# Altium integrated library Electronics_PCB.IntLib: 21 symbols
Pins are listed as number, name and electrical type; pins without a type are passive.

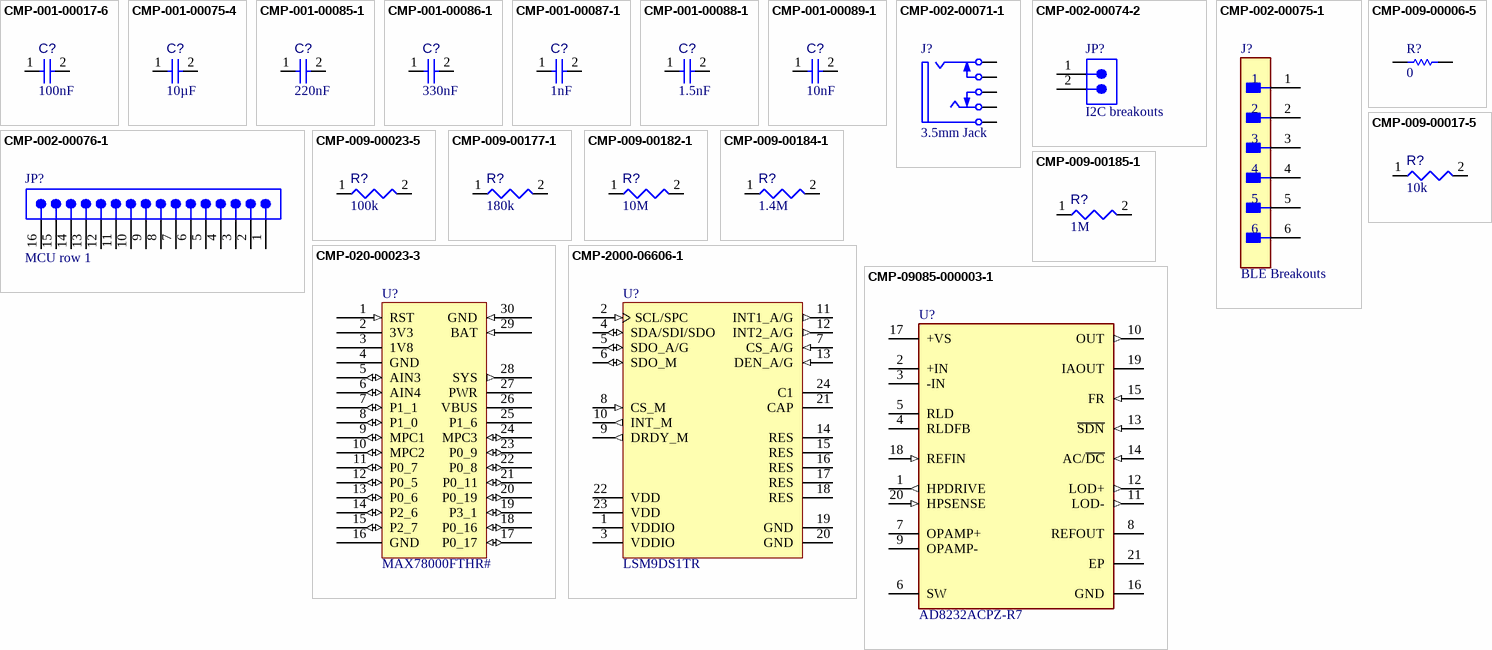
[diagram p0: symbols CMP-001-00017-6 to CMP-09085-000003-1]

## CMP-001-00017-6
designator C?, comment value 100nF  (hidden comment: Capacitor 100 nF +/-10% 50 V 0603)
Chip Capacitor, 100 nF, +/- 10%, 50 V, 0603 (1608 Metric); Manufacturer: Kyocera AVX; Manufacturer Part Number: 06035C104KAT2A; Manufacturer: Yageo; Manufacturer Part Number: CC0603KRX7R9BB104; Manufacturer: Murata; Manufacturer Part Number: GRM188R71H104KA93D; Voltage Rating: 50V; Capacitor Type: Ceramic; Tolerance: 10%; Mounting Technology: SM; Max Operating Temperature: 125°C; RoHS Compliant: True; Pins: 2; Case/Package: 0603; Min Operating Temperature: -55°C; Component Type: Capacitors
footprint CAPC1608X90X40NL10T20 (Chip Capacitor, 2-Leads, Body 1.70x0.90mm, IPC Medium Density)
footprint CAPC1608X90X40LL10T20 (Chip Capacitor, 2-Leads, Body 1.70x0.90mm, IPC High Density)
footprint CAPC1608X90X40ML10T20 (Chip Capacitor, 2-Leads, Body 1.70x0.90mm, IPC Low Density)
pins: 1, 2

## CMP-001-00075-4
designator C?, comment value 10µF  (hidden comment: Capacitor 10µF +/-20% 10V 0603)
Chip Capacitor, 10µF +/-20%, 10V, 0603, Thickness 1 mm; Manufacturer: Yageo; Manufacturer Part Number: CC0603KRX5R6BB106; Manufacturer: TDK; Manufacturer Part Number: C1608X5R1A106K; Manufacturer: Kyocera AVX; Manufacturer Part Number: 0603ZD106KAT2A; Manufacturer: Murata; Manufacturer Part Number: GRM188R61C106KAALD; Manufacturer: Samsung; Manufacturer Part Number: CL10A106KP8NNNC; Manufacturer Part Number: C1608X5R1A106K080AC; Manufacturer Part Number: GRM188R61A106KAALD; Tolerance: 10%; Voltage Rating: 10V; Max Operating Temperature: 85°C; Pins: 2; Case/Package: 0603; Mounting Technology: SMT; Min Operating Temperature: -55°C; Component Type: Capacitors
footprint CAPC0603(1608)100_L (Chip Capacitor, Body 1.6x0.8mm, Height 1.0mm, IPC High Density)
pins: 1, 2

## CMP-001-00085-1
designator C?, comment value 220nF  (hidden comment: Capacitor 220 nF)
Ceramic Capacitor, Multilayer, Ceramic, 25V, 10% +Tol, 10% -Tol, X7R, 15% TC, 0.22uF, Surface Mount, 0603; Manufacturer: KEMET; Manufacturer Part Number: C0603C224K3RACTU; Capacitor Type: Ceramic; Min Operating Temperature: -55°C; RoHS Compliant: Yes; Case/Package: 0603; Mounting Technology: Surface Mount; Max Operating Temperature: 125°C; Pins: 2; Component Type: Capacitors
footprint FP-C0603C-CF-IPC_B
footprint FP-C0603C-CF-IPC_C
footprint FP-C0603C-CF-IPC_A
footprint FP-C0603C-CF-MFG
pins: 1, 2

## CMP-001-00086-1
designator C?, comment value 330nF  (hidden comment: Capacitor .33 uF 0603)
Ceramic Capacitor, Multilayer, Ceramic, 50V, 10% +Tol, 10% -Tol, X7R, 15% TC, 0.33uF, Surface Mount, 0603; Manufacturer: TDK; Manufacturer Part Number: C1608X7R1H334K080AC; Mounting Technology: Surface Mount; Min Operating Temperature: -55°C; Max Operating Temperature: 125°C; Capacitor Type: Ceramic; Case/Package: 0603; Pins: 2; RoHS Compliant: Yes; Component Type: Capacitors
footprint FP-C1608-080-0_1-IPC_B
footprint FP-C1608-080-0_1-IPC_C
footprint FP-C1608-080-0_1-IPC_A
footprint FP-C1608-080-0_1-MFG
pins: 1, 2

## CMP-001-00087-1
designator C?, comment value 1nF  (hidden comment: Capacitor 1 nF 0603)
Ceramic Capacitor, Multilayer, Ceramic, 50V, 10% +Tol, 10% -Tol, X7R, 15% TC, 0.001uF, Surface Mount, 0603; Manufacturer: Kyocera AVX; Manufacturer Part Number: 06035C102KAT2A; Mounting Technology: Surface Mount; Pins: 2; Capacitor Type: Ceramic; Min Operating Temperature: -55°C; Max Operating Temperature: 125°C; RoHS Compliant: Yes; Case/Package: 0603; Component Type: Capacitors
footprint FP-0603-L_1_6_0_15-W_0_81-IPC_C
footprint FP-0603-L_1_6_0_15-W_0_81-IPC_B
footprint FP-0603-L_1_6_0_15-W_0_81-IPC_A
footprint FP-0603-L_1_6_0_15-W_0_81-MFG
pins: 1, 2

## CMP-001-00088-1
designator C?, comment value 1.5nF  (hidden comment: Capacitor 1.5 nF 0603)
Ceramic Capacitor, Multilayer, Ceramic, 50V, 5% +Tol, 5% -Tol, C0G, 30ppm/Cel TC, 0.0015uF, Surface Mount, 0603; Manufacturer: Murata; Manufacturer Part Number: GRM1885C1H152JA01D; RoHS Compliant: Yes; Max Operating Temperature: 125°C; Mounting Technology: Surface Mount; Pins: 2; Min Operating Temperature: -55°C; Capacitor Type: Ceramic; Case/Package: 0603; Component Type: Capacitors
footprint FP-GRM188-0_1-e0_2_0_5-IPC_B
footprint FP-GRM188-0_1-e0_2_0_5-MFG
footprint FP-GRM188-0_1-e0_2_0_5-IPC_A
footprint FP-GRM188-0_1-e0_2_0_5-IPC_C
pins: 1, 2

## CMP-001-00089-1
designator C?, comment value 10nF  (hidden comment: Capacitor 10nF 0603)
Ceramic Capacitor, Multilayer, Ceramic, 50V, 10% +Tol, 10% -Tol, X7R, 15% TC, 0.01uF, Surface Mount, 0603; Manufacturer: Yageo; Manufacturer Part Number: CC0603KRX7R9BB103; Pins: 2; RoHS Compliant: Yes; Capacitor Type: Ceramic; Max Operating Temperature: 125°C; Min Operating Temperature: -55°C; Case/Package: 0603; Mounting Technology: Surface Mount; Component Type: Capacitors
footprint FP-CC0603-DA-IPC_B
footprint FP-CC0603-DA-IPC_C
footprint FP-CC0603-DA-MFG
footprint FP-CC0603-DA-IPC_A
pins: 1, 2

## CMP-002-00071-1
designator J?, comment 3.5mm Jack
3 Pole(s), Surface Mount Terminal, Jack; Manufacturer: Switchcraft; Manufacturer Part Number: 35RASMT4BHNTRX; Connector Type: AUDIO/RCA CONNECTOR; Mounting Technology: Board; RoHS Compliant: Yes; Component Type: Connectors
footprint SWIT-35RASMT4BHNTRX_V (Jack, 5-Leads, Body 17x6mm)
pins: 1, 2, 3, 4, 5

## CMP-002-00074-2
designator JP?, comment I2C breakouts
Board Connector, 2 Contact(s), 1 Row(s), Male, Straight, 0.1 inch Pitch, Solder Terminal, Locking, Black Insulator, Plug; Manufacturer: Wurth Electronics; Manufacturer Part Number: 61300211121; Mounting Technology: Board; Connector Type: BOARD CONNECTOR; Max Operating Temperature: 125°C; Min Operating Temperature: -40°C; RoHS Compliant: Yes; Component Type: Connectors
footprint 61300211121 (Pin Header, pitch 2.54 mm, THT, Vertical, single row, 2p)
pins: 1, 2

## CMP-002-00075-1
designator J?, comment BLE Breakouts
Board Connector, 6 Contact(s), 1 Row(s), Male, Straight, 0.1 inch Pitch, Solder Terminal, Locking, Black Insulator, Receptacle; Manufacturer: Molex; RoHS Compliant: Yes; Connector Type: BOARD CONNECTOR; Mounting Technology: Board; Manufacturer Part Number: 22-28-4060; Component Type: Connectors
footprint FP-22-28-4060-MFG
pins: 1, 2, 3, 4, 5, 6

## CMP-002-00076-1
designator JP?, comment MCU row 1
Board Connector, 16 Contact(s), 1 Row(s), Male, Straight, 0.1 inch Pitch, Solder Terminal, Black Insulator; Manufacturer: Samtec; Manufacturer Part Number: TSW-116-08-G-S; RoHS Compliant: Yes; Connector Type: BOARD CONNECTOR; Mounting Technology: Board; Component Type: Connectors
footprint SMTC-TSW-116-08-X-S (.025 SQ Post Terminal Strip Assembly, 1x16 Pins, Vertical, 2.54mm Pitch, Male)
pins: 1, 2, 3, 4, 5, 6, 7, 8, 9, 10, 11, 12, 13, 14, 15, 16

## CMP-009-00006-5
designator R?, comment value 0  (hidden comment: Resistor 0R +/- 5% 0603 100 mW)
Chip Resistor, 0 Ohm, 0.1 W, -55 to 155 degC, 0603 (1608 Metric); Manufacturer: Yageo; Manufacturer Part Number: RC0603JR-130RL; Manufacturer: Vishay; Manufacturer Part Number: CRCW0603-0000Z0EA; Manufacturer Part Number: RC0603JR-070RL; Manufacturer: Panasonic; Manufacturer Part Number: ERJ-3GEY0R00V; Power: 100mW; Voltage Rating: 50V; Max Operating Temperature: 155°C; RoHS Compliant: True; Mounting Technology: SM; Case/Package: 0603; Min Operating Temperature: -55°C; Tolerance: 5%; Pins: 2; Component Type: Resistors
footprint RESC1608X55X25ML10T15 (Chip Resistor, 2-Leads, Body 1.70x0.90mm, IPC Low Density)
footprint RESC1608X55X25NL10T15 (Chip Resistor, 2-Leads, Body 1.70x0.90mm, IPC Medium Density)
footprint RESC1608X55X25LL10T15 (Chip Resistor, 2-Leads, Body 1.70x0.90mm, IPC High Density)
pins: 1, 2

## CMP-009-00017-5
designator R?, comment value 10k  (hidden comment: Resistor 10k +/-1% 0603 100 mW)
Chip Resistor, 10 KOhm, +/- 1%, 01 W, -55 to 155 degC, 0603 (1608 Metric); Manufacturer: Yageo; Manufacturer Part Number: RC0603FR-0710KL; Manufacturer: Panasonic; Manufacturer Part Number: ERJ-3EKF1002V; Manufacturer Part Number: RC0603FR-1310KL; Manufacturer: Vishay; Manufacturer Part Number: CRCW060310K0FKEA; Voltage Rating: 50V; Power: 100mW; RoHS Compliant: True; Min Operating Temperature: -55°C; Pins: 2; Case/Package: 0603; Mounting Technology: SM; Max Operating Temperature: 155°C; Tolerance: 1%; Component Type: Resistors
footprint RESC1608X55X25ML10T15 (Chip Resistor, 2-Leads, Body 1.70x0.90mm, IPC Low Density)
footprint RESC1608X55X25NL10T15 (Chip Resistor, 2-Leads, Body 1.70x0.90mm, IPC Medium Density)
footprint RESC1608X55X25LL10T15 (Chip Resistor, 2-Leads, Body 1.70x0.90mm, IPC High Density)
pins: 1, 2
1 alternate drawing of the same symbol

## CMP-009-00023-5
designator R?, comment value 100k  (hidden comment: Resistor 100k +/-1% 0603 100 mW)
Chip Resistor, 100 KOhm, +/- 1%, 0.1 W, -55 to 155 degC, 0603 (1608 Metric); Manufacturer: Yageo; Manufacturer Part Number: RC0603FR-07100KL; Manufacturer: Vishay; Manufacturer Part Number: CRCW0603-100KFKEA; Manufacturer Part Number: RC0603FR-13100KL; Manufacturer: Panasonic; Manufacturer Part Number: ERJ-3EKF1003V; Voltage Rating: 50V; Power: 100mW; Max Operating Temperature: 155°C; RoHS Compliant: True; Tolerance: 1%; Pins: 2; Case/Package: 0603; Mounting Technology: SM; Min Operating Temperature: -55°C; Component Type: Resistors
footprint RESC1608X55X25ML10T15 (Chip Resistor, 2-Leads, Body 1.70x0.90mm, IPC Low Density)
footprint RESC1608X55X25NL10T15 (Chip Resistor, 2-Leads, Body 1.70x0.90mm, IPC Medium Density)
footprint RESC1608X55X25LL10T15 (Chip Resistor, 2-Leads, Body 1.70x0.90mm, IPC High Density)
pins: 1, 2
1 alternate drawing of the same symbol

## CMP-009-00177-1
designator R?, comment value 180k  (hidden comment: Resistor 180k)
Fixed Resistor, Metal Glaze/thick Film, 0.1W, 180000ohm, 75V, 1% +/-Tol, 100ppm/Cel, Surface Mount, 0603; Manufacturer: Panasonic; Manufacturer Part Number: ERJ-3EKF1803V; Power: 100mW; RoHS Compliant: Yes; Mounting Technology: Surface Mount; Pins: 2; Case/Package: 0603; Tolerance: 1%; Max Operating Temperature: 155°C; Min Operating Temperature: -55°C; Component Type: Resistors
footprint RESC1608X55X30LL15T15 (Chip Resistor, 2-Leads, Body 1.60x0.80mm, IPC High Density)
footprint RESC1608X55X30NL15T15 (Chip Resistor, 2-Leads, Body 1.60x0.80mm, IPC Medium Density)
footprint RESC1608X55X30ML15T15 (Chip Resistor, 2-Leads, Body 1.60x0.80mm, IPC Low Density)
pins: 1, 2
1 alternate drawing of the same symbol

## CMP-009-00182-1
designator R?, comment value 10M  (hidden comment: Resistor 10M)
Fixed Resistor, Metal Glaze/thick Film, 0.1W, 10000000ohm, 75V, 5% +/-Tol, -400,150ppm/Cel, Surface Mount, 0603; Manufacturer: Panasonic; Manufacturer Part Number: ERJ-3GEYJ106V; Power: 100mW; Mounting Technology: Surface Mount; Pins: 2; Max Operating Temperature: 155°C; Case/Package: 0603; RoHS Compliant: Yes; Tolerance: 5%; Min Operating Temperature: -55°C; Component Type: Resistors
footprint RESC1608X55X30LL15T15 (Chip Resistor, 2-Leads, Body 1.60x0.80mm, IPC High Density)
footprint RESC1608X55X30NL15T15 (Chip Resistor, 2-Leads, Body 1.60x0.80mm, IPC Medium Density)
footprint RESC1608X55X30ML15T15 (Chip Resistor, 2-Leads, Body 1.60x0.80mm, IPC Low Density)
pins: 1, 2
1 alternate drawing of the same symbol

## CMP-009-00184-1
designator R?, comment value 1.4M  (hidden comment: Resistor 1.4M 0603)
Fixed Resistor, Metal Glaze/thick Film, 0.1W, 1400000ohm, 75V, 1% +/-Tol, 100ppm/Cel, Surface Mount, 0603; Manufacturer: Vishay; Manufacturer Part Number: CRCW06031M40FKEA; Power: 100mW; RoHS Compliant: Yes; Mounting Technology: Surface Mount; Max Operating Temperature: 155°C; Pins: 2; Case/Package: 0603; Min Operating Temperature: -55°C; Tolerance: 1%; Component Type: Resistors
footprint RESC1609X50X30NL10T20 (Chip Resistor, 2-Leads, Body 1.55x0.85mm, IPC Medium Density)
footprint RESC1609X50X30ML10T20 (Chip Resistor, 2-Leads, Body 1.55x0.85mm, IPC Low Density)
footprint RESC1609X50X30LL10T20 (Chip Resistor, 2-Leads, Body 1.55x0.85mm, IPC High Density)
pins: 1, 2
1 alternate drawing of the same symbol

## CMP-009-00185-1
designator R?, comment value 1M  (hidden comment: Resistor 1M 0603)
Fixed Resistor, Metal Glaze/thick Film, 0.1W, 1000000ohm, 75V, 1% +/-Tol, 100ppm/Cel, Surface Mount, 0603; Manufacturer: Panasonic; Manufacturer Part Number: ERJ-3EKF1004V; Power: 100mW; Pins: 2; Mounting Technology: Surface Mount; Case/Package: 0603; Min Operating Temperature: -55°C; Max Operating Temperature: 155°C; Tolerance: 1%; RoHS Compliant: Yes; Component Type: Resistors
footprint FP-ERJ3EK-IPC_A
footprint FP-ERJ3EK-IPC_C
footprint FP-ERJ3EK-IPC_B
footprint FP-ERJ3EK-MFG
pins: 1, 2
1 alternate drawing of the same symbol

## CMP-020-00023-3
designator U?, comment MAX78000FTHR#  (graphical)
MAX78000 1000KBytes Flash Ultra-Low-Power Arm Cortex-M4 Processor Evaluation Board; Manufacturer: Maxim; Clock Frequency: 100MHz; RoHS Compliant: No; Manufacturer Part Number: MAX78000FTHR#; Component Type: Processors
pins: 1 RST (in), 2 3V3 (power), 3 1V8 (power), 4 GND (power), 5 AIN3 (io), 6 AIN4 (io), 7 P1_1 (io), 8 P1_0 (io), 9 MPC1 (io), 10 MPC2 (io), 11 P0_7 (io), 12 P0_5 (io), 13 P0_6 (io), 14 P2_6 (io), 15 P2_7 (io), 16 GND (power), 17 P0_17 (io), 18 P0_16 (io), 19 P3_1 (io), 20 P0_19 (io), 21 P0_11 (io), 22 P0_8 (io), 23 P0_9 (io), 24 MPC3 (io), 25 P1_6, 26 VBUS (power), 27 PWR (power), 28 SYS (out), 29 BAT (in), 30 GND (in)

## CMP-2000-06606-1
designator U?, comment LSM9DS1TR
iNEMO Inertial Module: 3D Accelerometer, 3D Gyroscope, 3D Magnetometer, 1.9 to 3.6 V, -40 to 85 degC, 24-Pin LGA, RoHS, Tape and Reel; Manufacturer: STMicroelectronics; SVHC: NoSVHC(17-Dec-2015); MEMS Module Function: Tri-AxisGyroscope,Tri-AxisAccelerometer,Tri-AxisMagnetometer; Supply Voltage Max: 3.6V; No. of Pins: 24Pins; Gyroscope Range: ±245°/s,±500°/s,±2000°/s; Acceleration Range: ±2g,±4g,±8g,±16g; Supply Voltage Min: 1.9V; Package Description: 24-Pin Plastic Land Grid Array Package, Body 3.65 x 3.15 mm, Pitch 0.43 mm; Manufacturer URL: http://www.st.com/; PartNumber: LSM9DS1; Product Range: -; Packaging: CutTape; Sensor Case Style: LGA; Datasheet URL: http://www2.st.com/content/ccc/resource/technical/document/datasheet/1e/3f/2a/d6/25/eb/48/46/DM00103319.pdf/files/DM00103319.pdf/jcr:content/translations/en.DM00103319.pdf; Package Reference: LGA-24_3500X3000X1000; Mounting Technology: SurfaceMount; Datasheet Version: Rev. 3, 03/2015; MSL: MSL3-168hours; Manufacturer Part Number: LSM9DS1TR
footprint STM-LGA-24_3500X3000X1000 (LGA, 24-Leads, Body 3.65x3.15mm, Pitch 0.43mm)
pins: 1 VDDIO (power) "Power supply for I/O pins", 2 SCL/SPC (in), 3 VDDIO (power) "Power supply for I/O pins", 4 SDA/SDI/SDO (io), 5 SDO_A/G (io), 6 SDO_M (io) "SPI serial data output (SDO) for the magnetometer. I2C least significant bit of the device address (SA0) for the magnetometer", 7 CS_A/G (in), 8 CS_M (in) "SPI enable. I2C/SPI mode selection for the magnetometer (1: SPI idle mode / I2C communication enabled; 0: SPI communication mode / I2C disabled)", 9 DRDY_M (out) "Magnetic sensor data ready", 10 INT_M (out) "Magnetic sensor interrupt", 11 INT1_A/G (out), 12 INT2_A/G (out), 13 DEN_A/G (in), 14 RES "Reserved. Connected to GND.", 15 RES "Reserved. Connected to GND.", 16 RES "Reserved. Connected to GND.", 17 RES "Reserved. Connected to GND.", 18 RES "Reserved. Connected to GND.", 19 GND (power) "0 V supply", 20 GND (power) "0 V supply", 21 CAP "Connected to GND with ceramic capacitor", 22 VDD (power) "Power supply", 23 VDD (power) "Power supply", 24 C1 "Capacitor connection (C1 = 100 nF)"

## CMP-09085-000003-1
designator U?, comment AD8232ACPZ-R7
IC ECG FRONT END 20LFCSP; Manufacturer: Analog Devices; Input Offset Voltage (Vos): 3mV; Power Supply Rejection Ratio (PSRR): 90dB; Input Bias Current: 50pA; Nominal Supply Current: 170uA; Min Supply Voltage: 2V; Common Mode Rejection Ratio: 80dB; Max Supply Voltage: 3.5V; Contact Plating: Tin; Operating Supply Current: 170uA; Packaging: Tape and Reel; REACH SVHC: No SVHC; Case/Package: LFCSP EP; Number of Pins: 20; Lead Free: Contains Lead; Min Operating Temperature: -40°C; Package Quantity: 1500; Mount: Surface Mount; Max Operating Temperature: 85°C; Manufacturer Part Number: AD8232ACPZ-R7
footprint FP-CP-20-8-IPC_C
footprint FP-CP-20-8-IPC_B
footprint FP-CP-20-8-IPC_A
pins: 1 HPDRIVE (out), 2 +IN (hiz), 3 -IN (hiz), 4 RLDFB, 5 RLD, 6 SW, 7 OPAMP+ (hiz), 8 REFOUT, 9 OPAMP- (hiz), 10 OUT (out), 11 LOD- (out), 12 LOD+ (out), 13 ~{SDN} (in), 14 AC/~{DC} (in), 15 FR (in), 16 GND (power), 17 +VS (power), 18 REFIN (in), 19 IAOUT, 20 HPSENSE (in), 21 EP (power)